# EAGLE library part BQ24195 (library Deegou_IC)
IC CHRG MGMT LI-ION/POL
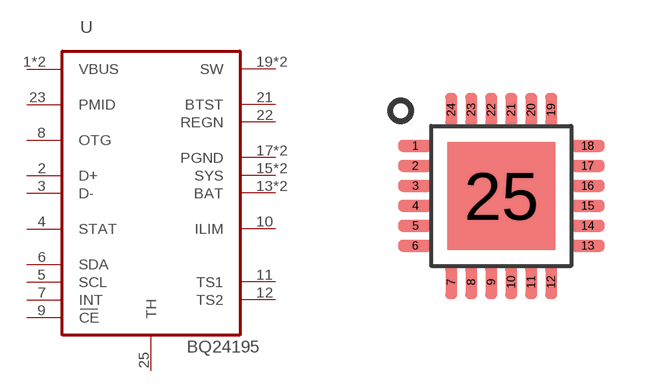
[diagram p78: symbol with the pads of QFN24; footprint QFN24]

Designator prefix U

## BQ24195QFN-24 (DATASHEET: http://www.ti.com/lit/ds/symlink/bq24195.pdf; MANUFACTURER: Texas Instruments; MANUFACTURER-PN: BQ24195LRGET; VALUE: BQ24195L)  [QFN24]
1  VBUS
2  D+
3  D-
4  STAT
5  SCL
6  SDA
7  INT
8  OTG
9  CE
10  ILIM
11  TS1
12  TS2
13  BAT
14  BAT
15  SYS
16  SYS
17  PGND
18  PGND
19  SW
20  SW
21  BTST
22  REGN
23  PMID
24  VBUS
25  TH

## Footprint QFN24 (pad centres in mm)
RTE (S-PQFP-N16) 3x3 mm Source: www.ti.com .. tpa6132a2 direct path stereo $.65.pdf
smd 0.85 x 0.3: 1 -2.155,1.25; 2 -2.155,0.75; 3 -2.155,0.25; 4 -2.155,-0.25; 5 -2.155,-0.75; 6 -2.155,-1.25; 13 2.155,-1.25; 14 2.155,-0.75; 15 2.155,-0.25; 16 2.155,0.25; 17 2.155,0.75; 18 2.155,1.25
smd 0.3 x 0.85: 7 -1.25,-2.155; 8 -0.75,-2.155; 9 -0.25,-2.155; 10 0.25,-2.155; 11 0.75,-2.155; 12 1.25,-2.155; 19 1.25,2.155; 20 0.75,2.155; 21 0.25,2.155; 22 -0.25,2.155; 23 -0.75,2.155; 24 -1.25,2.155
smd 2.7 x 2.7: 25 0,0